# EAGLE library part RASPBERRY-PI (library BERGCloud-OSH)
Headers for the Raspberry Pi Board <http://www.raspberrypi.org/> v2. GPIO Connector (P1): http://elinux.org/RPi_Low-level_peripherals Based on .lbr designed by Jacques Lagnel in 2012. Created by AH. BERG Cloud <http://www.bergcloud.com>
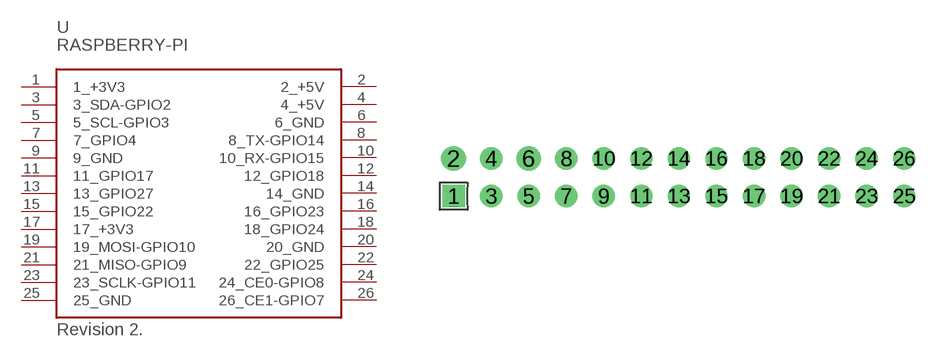
[diagram p2: symbol with the pads of 13X2_2.54MM; footprint 13X2_2.54MM]

Designator prefix -

## RASPBERRY-PIHEADERS  [13X2_2.54MM]
1  1_+3V3
2  2_+5V
3  3_SDA-GPIO2
4  4_+5V
5  5_SCL-GPIO3
6  6_GND
7  7_GPIO4
8  8_TX-GPIO14
9  9_GND
10  10_RX-GPIO15
11  11_GPIO17
12  12_GPIO18
13  13_GPIO27
14  14_GND
15  15_GPIO22
16  16_GPIO23
17  17_+3V3
18  18_GPIO24
19  19_MOSI-GPIO10
20  20_GND
21  21_MISO-GPIO9
22  22_GPIO25
23  23_SCLK-GPIO11
24  24_CE0-GPIO8
25  25_GND
26  26_CE1-GPIO7

## Footprint 13X2_2.54MM (pad centres in mm)
For use with the Raspberry PI GPIO.
drill 1 square: 1 -15.24,-1.27
drill 1 pad 1.676: 2 -15.24,1.27; 6 -10.16,1.27
drill 1: 3 -12.7,-1.27; 4 -12.7,1.27; 5 -10.16,-1.27; 7 -7.62,-1.27; 8 -7.62,1.27; 9 -5.08,-1.27; 10 -5.08,1.27; 11 -2.54,-1.27; 12 -2.54,1.27; 13 0,-1.27; 14 0,1.27; 15 2.54,-1.27; 16 2.54,1.27; 17 5.08,-1.27; 18 5.08,1.27; 19 7.62,-1.27; 20 7.62,1.27; 21 10.16,-1.27; 22 10.16,1.27; 23 12.7,-1.27; 24 12.7,1.27; 25 15.24,-1.27; 26 15.24,1.27